# EAGLE library part ATSHA204_SOIC8 (library SparkFun-IC-Special-Function)
Crypto 4.5KB I2C Datasheet <https://cdn.sparkfun.com/datasheets/Dev/Beagle/Atmel-8740-CryptoAuth-ATSHA204-Datasheet.pdf> SparkFun Products CryptoCape <https://www.sparkfun.com/products/12773> (DEV-12773) SparkFun CryptoShield <https://www.sparkfun.com/products/13183> (DEV-13183)
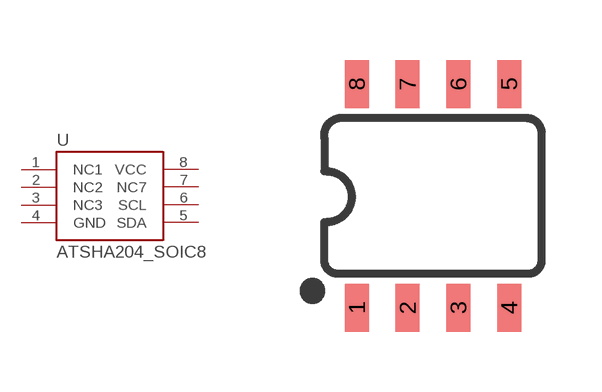
[diagram p23: symbol with the pads of SO08; footprint SO08]

Designator prefix U

## ATSHA204_SOIC8 (PROD_ID: IC-11981; VALUE: ATSHA204)  [SO08]
1  NC1  nc
2  NC2  nc
3  NC3  nc
4  GND  pwr
5  SDA
6  SCL
7  NC7  nc
8  VCC  pwr

## Footprint SO08 (pad centres in mm)
SOIC, 0.15 inch width
smd 0.6 x 1.2: 1 -1.905,-2.8; 2 -0.635,-2.8; 3 0.635,-2.8; 4 1.905,-2.8; 5 1.905,2.8; 6 0.635,2.8; 7 -0.635,2.8; 8 -1.905,2.8